# Altium footprint library DIP-JP NO 0607.PCBLIB: 61 footprints (part 3 of 4)
Each footprint in its own frame and in the unit in brackets; x right, y up, seen from the top. Pads: shape width x height; smd on the part's side, far side on the other; paste and mask are expansions set on the pad; w line width, h text height; cw(c..) or ccw(c..) is an arc to the next point about the centre after c.
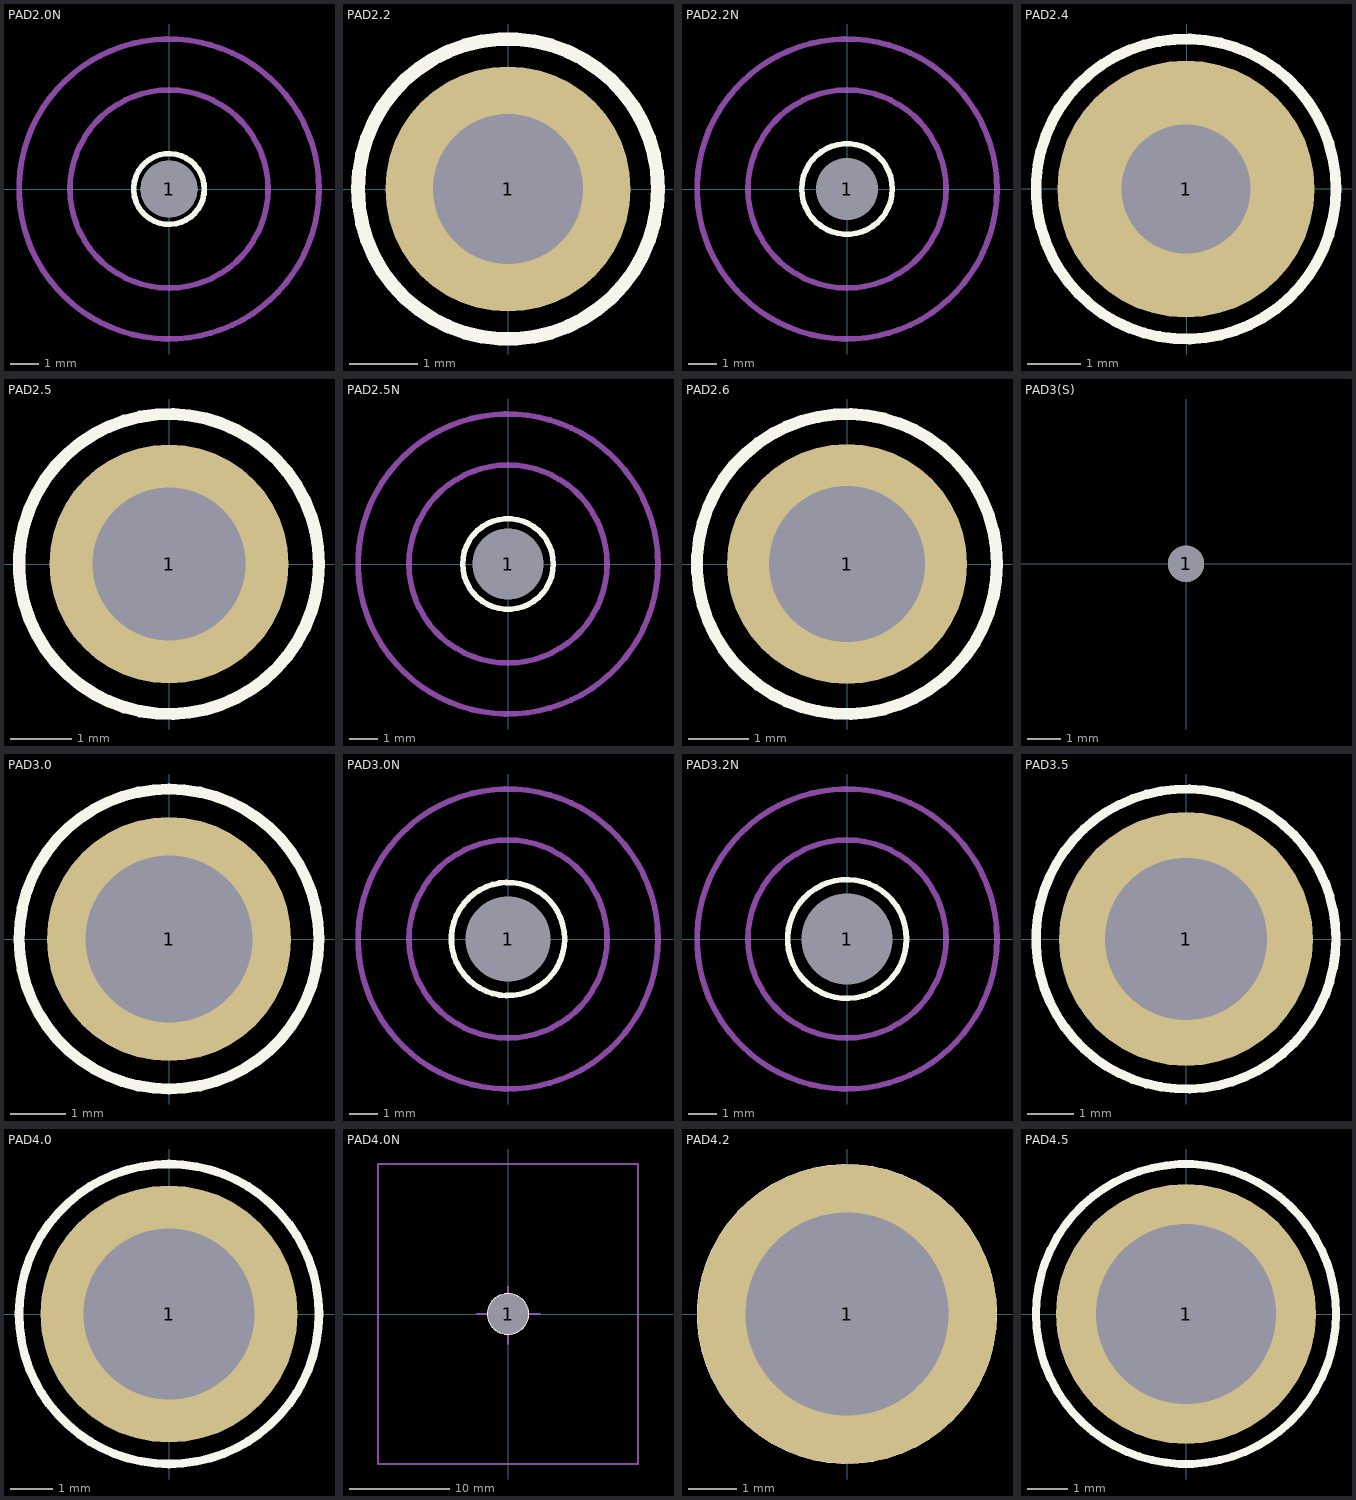
[diagram p2: the footprints below, top view; thin cyan lines are the x and y axes]

## PAD2.0N [mm]
pads (1):
  round 2 hole 2 unplated: 1(0,0)
Top Overlay:
  circle w0.2: c0,0 r1.25
Mechanical 6:
  circle w0.2: c0,0 r5.3
Mechanical 8:
  circle w0.2: c0,0 r3.5
Drill Drawing:
  circle w0.2: c0,0 r1
  text "NPTH" at -2.75,-3.25 h1.5

## PAD2.2 [mm] "10A"
pads (1):
  round 3.6 hole 2.2: 1(0,0)
Top Overlay:
  circle w0.2: c0,0 r2.2

## PAD2.2N [mm]
pads (1):
  round 2 hole 2.2 unplated: 1(0,0)
Top Overlay:
  circle w0.2: c0,0 r1.6
Mechanical 6:
  circle w0.2: c0,0 r5.3
Mechanical 8:
  circle w0.2: c0,0 r3.5
Drill Drawing:
  circle w0.2: c0,0 r1.1
  text "NPTH" at -2,-3 h1.2

## PAD2.4 [mm]
pads (1):
  round 4.8 hole 2.4: 1(-0.01,-0.005)
Top Overlay:
  circle w0.2: c-0.01,-0.005 r2.8

## PAD2.5 [mm]
pads (1):
  round 3.9 hole 2.5: 1(0,0)
Top Overlay:
  circle w0.2: c0,0 r2.45

## PAD2.5N [mm]
pads (1):
  round 2 hole 2.5 unplated: 1(0,0)
Top Overlay:
  circle w0.2: c0,0 r1.6
Mechanical 6:
  circle w0.2: c0,0 r5.3
Mechanical 8:
  circle w0.2: c0,0 r3.5
Drill Drawing:
  circle w0.2: c0,0 r1.25
  text "NPTH" at -2,-3 h1.2

## PAD2.6 [mm]
pads (1):
  round 4 hole 2.6: 1(0,0)
Top Overlay:
  circle w0.2: c0,0 r2.5

## PAD3(S) [mm]
pads (1):
  round 1.1 hole 1.1: 1(0,0)
Bottom Solder:
  lines w0.2: -0.435,-1.405 0.815,-1.405
  lines w0.5: -2.285,-2.305 -0.535,-2.305 0.515,-2.305 2.26,-2.295 ccw(c2.26,0) 2.285,2.294 0.49,2.295 -0.51,2.295 -2.26,2.295 ccw(c-2.26,0) -2.285,-2.294 ; -0.01,-2.305 -0.01,-1.555 ; -0.01,1.25 -0.01,2.295
  lines w0.508: -3.25,-0.5 -0.5,-0.5 ; -3.25,0 3.5,0 ; -3.25,0.25 3.25,0.25 ; -3.25,0.5 3.25,0.5 ; -3,-0.75 -0.5,-0.75 ; -3,0.75 3,0.75 ; -2.5,-1.25 -0.5,-1.25 -0.5,0 0.5,0 ; -2.25,-1.25 cw(c-2.25,0) -2.25,1.25 2.5,1.25 ; 0.5,-1 3,-1 ; 0.5,-0.5 3.25,-0.5 ; 2.25,-1.25 ccw(c2.25,0) 2.25,1.25 ; 2.5,-1.25 0.5,-1.25 0.5,0 ; 0.5,0 0.5,0
Drill Drawing:
  lines w1.1: -2.225,0 0,0 2.225,0
  text "5.5x1.1mm" at -3.556,1.016 h1.2

## PAD3.0 [mm]
pads (1):
  round 4.4 hole 3: 1(0,0)
Top Overlay:
  circle w0.2: c0,0 r2.7

## PAD3.0N [mm]
pads (1):
  round 2 hole 3 unplated: 1(0,0)
Top Overlay:
  circle w0.2: c0,0 r2
Mechanical 6:
  circle w0.2: c0,0 r5.3
Mechanical 8:
  circle w0.2: c0,0 r3.5
Drill Drawing:
  circle w0.2: c0,0 r1.5
  text "NPTH" at -2,-3.5 h1.2

## PAD3.2N [mm]
pads (1):
  round 2 hole 3.2 unplated: 1(0,0)
Top Overlay:
  circle w0.2: c0,0 r2.1
Mechanical 6:
  circle w0.2: c0,0 r5.3
Mechanical 8:
  circle w0.2: c0,0 r3.5
Drill Drawing:
  circle w0.2: c0,0 r1.6
  text "NPTH" at -1.75,-3.5 h1.2

## PAD3.5 [mm]
pads (1):
  round 5.5 hole 3.5: 1(0,0)
Top Overlay:
  circle w0.2: c0,0 r3.25

## PAD4.0 [mm]
pads (1):
  round 6 hole 4: 1(0,0)
Top Overlay:
  circle w0.2: c0,0 r3.5

## PAD4.0N [mm]
pads (1):
  round 4 hole 4 unplated: 1(0,0)
Top Overlay:
  circle w0.2: c0,0 r2
Mechanical 1:
  circle w0.2: c0,0 r2
  text "NPTH" at 2.274,-2 h1.2
  text "D=4.0" at 2.25,0.75 h1.2
Mechanical 2:
  circle w0.2: c0,0 r2
  lines w0.2: -3.1,0 0,0 ; 0,-3 0,0 ; 0,2.75 0,0 ; 3.2,0 0,0
  text "D=4.0" at 2.25,0.75 h1.2
  text "NPTH" at 2.274,-2 h1.2
Mechanical 5:
  lines w0.2: -13,-15 13,-15 13,15 -13,15 -13,-15
Drill Drawing:
  circle w0.2: c0,0 r2
  text "D=4.0" at 2.25,0.75 h1.2
  text "NPTH" at 2.274,-2 h1.2

## PAD4.2 [mm]
pads (1):
  round 6.2 hole 4.2: 1(0,0)
Top Overlay:
  circle w0.2: c0,0 r3

## PAD4.5 [mm]
pads (1):
  round 6.5 hole 4.5: 1(0,0)
Top Overlay:
  circle w0.2: c0,0 r3.75